# EAGLE library part LT3508 (library Gibbot v4)
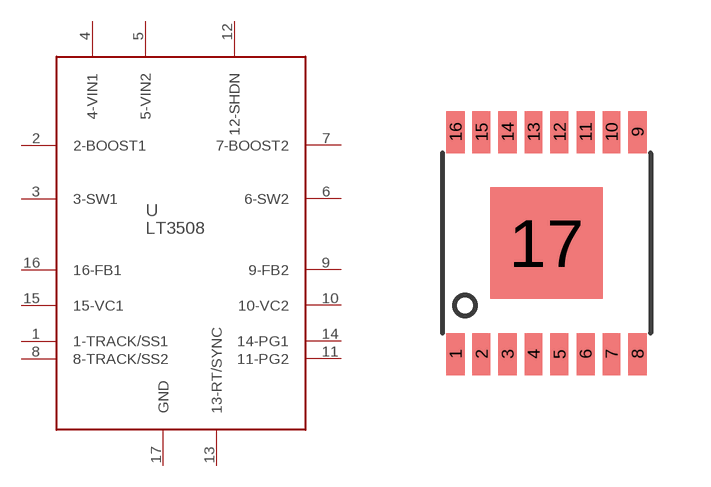
[diagram p8: symbol with the pads of TSSOP16; footprint TSSOP16]

Designator prefix -

## LT3508  [TSSOP16]
1  1-TRACK/SS1
2  2-BOOST1
3  3-SW1
4  4-VIN1
5  5-VIN2
6  6-SW2
7  7-BOOST2
8  8-TRACK/SS2
9  9-FB2
10  10-VC2
11  11-PG2
12  12-SHDN
13  13-RT/SYNC
14  14-PG1
15  15-VC1
16  16-FB1
17  GND

## Footprint TSSOP16 (pad centres in mm)
smd 0.45 x 1.05: 1 -2.275,-2.775; 2 -1.625,-2.775; 3 -0.975,-2.775; 4 -0.325,-2.775; 5 0.325,-2.775; 6 0.975,-2.775; 7 1.625,-2.775; 8 2.275,-2.775; 9 2.275,2.775; 10 1.625,2.775; 11 0.975,2.775; 12 0.325,2.775; 13 -0.325,2.775; 14 -0.975,2.775; 15 -1.625,2.775; 16 -2.275,2.775
smd 2.8 x 2.8: 17 0,0